# Altium footprint library VESC_DEVICE.PcbLib: 56 footprints (part 2 of 4)
Each footprint in its own frame and in the unit in brackets; x right, y up, seen from the top. Pads: shape width x height; smd on the part's side, far side on the other; paste and mask are expansions set on the pad; w line width, h text height; cw(c..) or ccw(c..) is an arc to the next point about the centre after c.
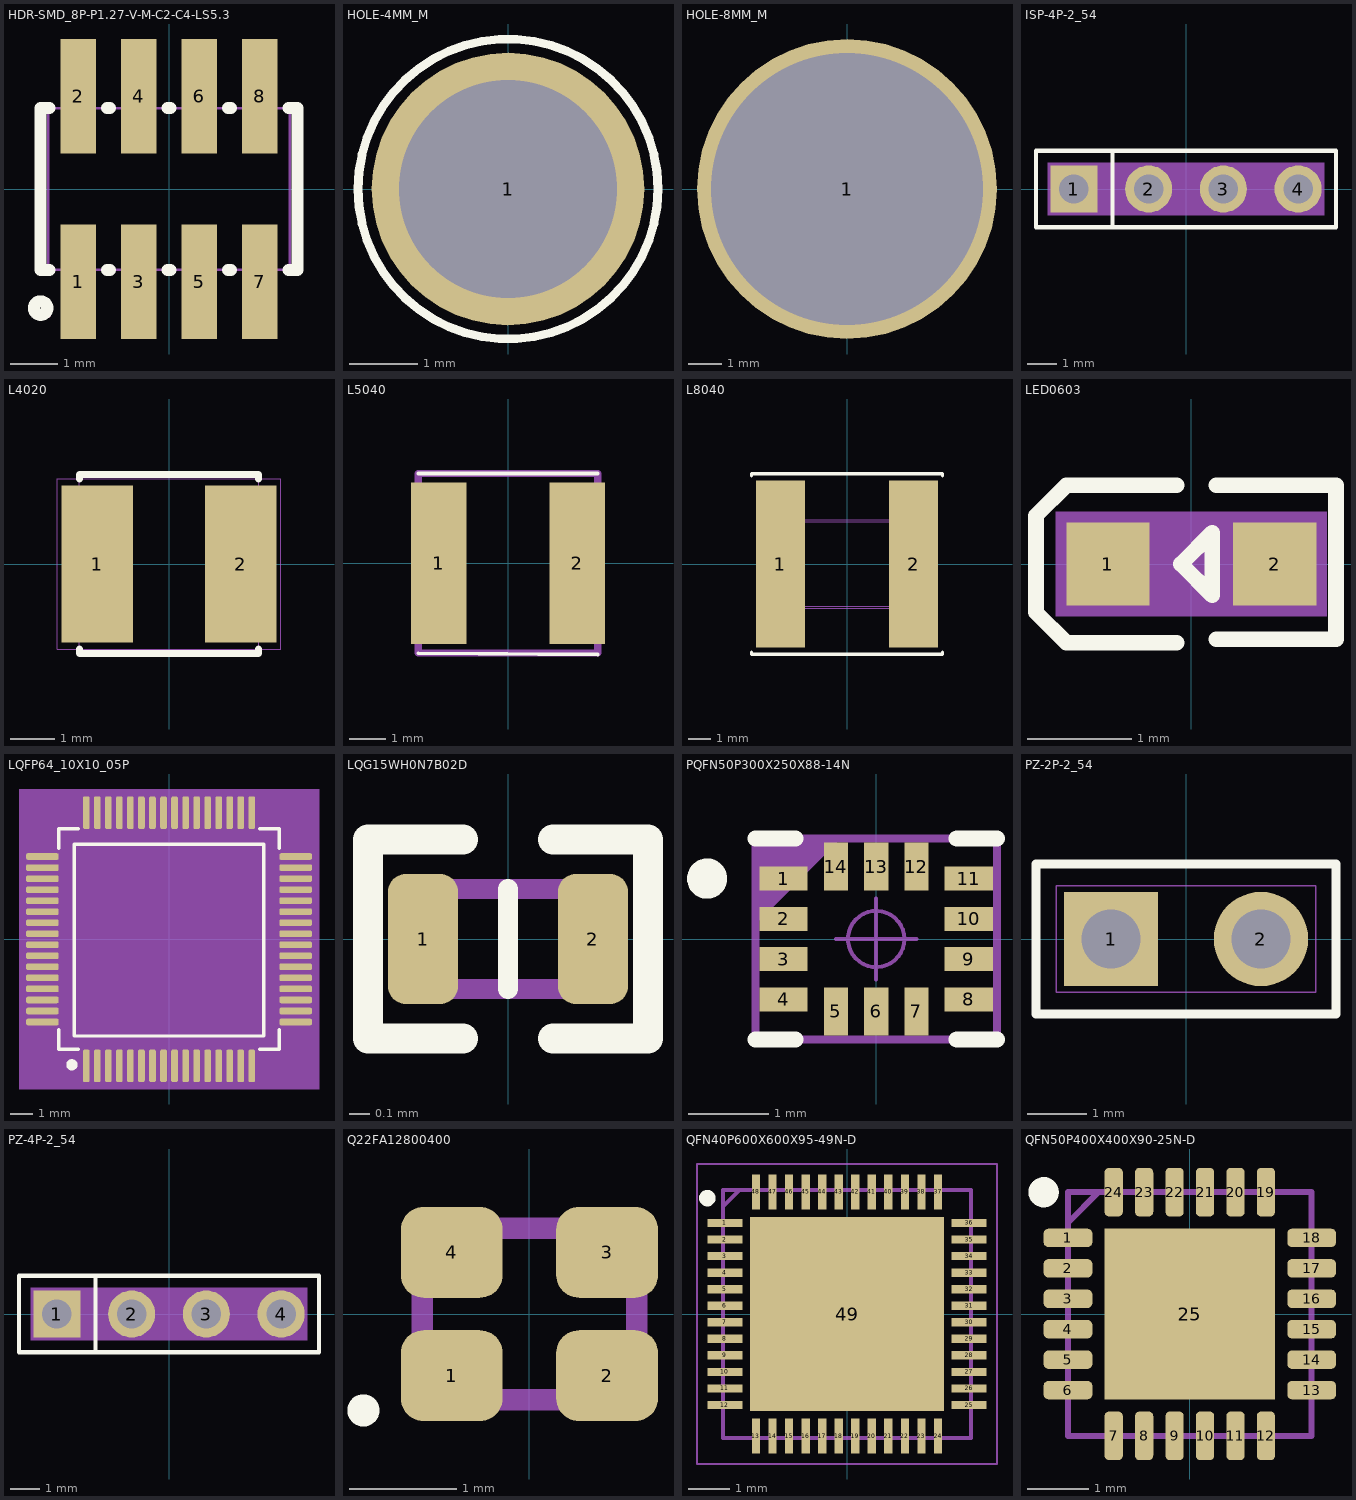
[diagram p1: the footprints below, top view; thin cyan lines are the x and y axes]

## HDR-SMD_8P-P1.27-V-M-C2-C4-LS5.3 [mm]
pads (8):
  rect 0.74x2.4 smd paste+0 mask+0.05: 1(-1.905,-1.95) 2(-1.905,1.95) 3(-0.635,-1.95) 4(-0.635,1.95) 5(0.635,-1.95) 6(0.635,1.95) 7(1.905,-1.95) 8(1.905,1.95)
Top Overlay:
  circle w0.254: c-2.695,-2.5 r0.141
  lines w0.254: -2.506,-1.7 -2.695,-1.7 -2.695,1.7 -2.506,1.7 ; -1.304,-1.7 -1.236,-1.7 ; -1.304,1.7 -1.236,1.7 ; -0.034,-1.7 0.034,-1.7 ; -0.034,1.7 0.034,1.7 ; 1.236,-1.7 1.304,-1.7 ; 1.236,1.7 1.304,1.7 ; 2.506,-1.7 2.695,-1.7 2.695,1.7 2.506,1.7
Mechanical 15:
  region: 1.705,2.65 2.105,2.65 2.105,1.15 1.705,1.15
  region: 1.705,-1.15 2.105,-1.15 2.105,-2.65 1.705,-2.65
  region: 0.435,2.65 0.835,2.65 0.835,1.15 0.435,1.15
  region: 0.435,-1.15 0.835,-1.15 0.835,-2.65 0.435,-2.65
  region: -0.835,2.65 -0.435,2.65 -0.435,1.15 -0.835,1.15
  region: -0.835,-1.15 -0.435,-1.15 -0.435,-2.65 -0.835,-2.65
  region: -2.105,2.65 -1.705,2.65 -1.705,1.15 -2.105,1.15
  region: -2.105,-1.15 -1.705,-1.15 -1.705,-2.65 -2.105,-2.65
  region: -2.48,-2.65 -2.481,-2.626 -2.516,-2.591 -2.565,-2.591 -2.599,-2.626 -2.6,-2.65 -2.599,-2.675 -2.564,-2.709 -2.515,-2.709 -2.481,-2.674 -2.48,-2.65
  lines w0.051: -2.54,-1.7 2.54,-1.7 2.54,1.7 -2.54,1.7 -2.54,-1.7
3D body "iWih-H1.step": height 4.5, standoff 0, extent -2.74,-2.4 2.74,2.4

## HOLE-4MM_M [mm]
pads (1):
  round 4 hole 3.2: 1(0,0)
Top Overlay:
  circle w0.127: c0,0 r2.2
Top Solder:
  circle w0.305: c0.01,-0.002 r1.645
Bottom Solder:
  circle w0.305: c-0.003,-0.001 r1.645

## HOLE-8MM_M [mm]
pads (1):
  round 9 / inner round 4 / far side round 9 hole 8.15: 1(0,0)
Top Solder:
  circle w0.305: c0.01,-0.002 r1.645
Bottom Solder:
  circle w0.305: c-0.003,-0.001 r1.645

## ISP-4P-2_54 [mm] "ISP-4P-2_54"
pads (4):
  rect 1.6x1.6 hole 1: 1(-3.81,0)
  round 1.6 hole 1: 2(-1.27,0) 3(1.27,0) 4(3.81,0)
Top Overlay:
  lines w0.15: -2.5,-1.3 -2.5,1.3 ; -5.1,-1.3 -5.1,1.3 5.1,1.3 5.1,-1.3 -5.1,-1.3
Top 3D Body:
  region: -4.7,-0.9 4.7,-0.9 4.7,0.9 -4.7,0.9
Mechanical 9:
  text "4" at 4.508,-0.4 h0.64
  text "2" at -0.492,-0.3 h0.64
  text "3" at 1.908,-0.4 h0.64
  text "1" at -3.092,-0.3 h0.64
Top Assembly:
  lines w0.025: -5.08,-1.27 -5.08,1.27 5.08,1.27 5.08,-1.27 -5.08,-1.27
3D body "dNjH-H1.step": height 8.54, standoff -3, extent -5.08,-1.33 5.09,1.33

## L4020 [mil] "L4020"
pads (2):
  rect 63x137.8 smd: 1(-63,0) 2(63,0)
Top Overlay:
  lines w5.9: -78.7,-74.8 -78.7,-78.7 78.7,-78.7 78.7,-74.8 ; -78.7,74.8 -78.7,78.7 78.7,78.7 78.7,74.8
Top 3D Body:
  lines w1: -98.4,-74.8 -98.4,74.8 98.4,74.8 98.4,-74.8 -98.4,-74.8
Mechanical 9:
  text "1" at -79.1,-11.8 h25
  text "2" at 50.9,-11.8 h25
Top Assembly:
  lines w1: -78.7,-78.7 78.7,-78.7 78.7,78.7 -78.7,78.7 -78.7,-78.7
3D body "IND-SMD_L4.0-W4.0_LQH44PN2R2MP0L.step": height 73.23, standoff 0, extent -79.13,-78.74 79.13,78.74

## L5040 [mm]
pads (2):
  rect 1.55x4.5 smd: 1(-1.925,0) 2(1.925,0)
Top Overlay:
  lines w0.1: -2.5,-2.5 2.5,-2.54 ; -2.5,2.5 2.5,2.5
Mechanical 13:
  lines w0.2: -2.5,-2.5 -2.5,2.5 2.5,2.5 2.5,-2.5 -2.5,-2.5
3D body "74404054221.stp": height 4.01, standoff 0.01, extent -2.5,-2.52 2.5,2.48

## L8040 [mm] "L8040"
pads (2):
  rect 2.2x7.5 smd: 1(-3,0) 2(3,0)
Top Overlay:
  lines w0.15: -4.299,-3.96 -4.299,-4.059 4.299,-4.059 4.299,-3.96 ; -4.299,3.96 -4.299,4.059 4.299,4.059 4.299,3.96
Top 3D Body:
  lines w0.025: -2.499,-1.9 2.499,-1.9 2.499,1.9 -2.499,1.9 -2.499,-1.9
Mechanical 9:
  text "2" at 1.293,-0.3 h0.64
  text "1" at -2.009,-0.3 h0.64
Top Assembly:
  lines w0.025: -1.999,-1.999 -1.999,1.999 1.999,1.999 1.999,-1.999 -1.999,-1.999
3D body "IND-SMD_L4.0-W4.0_LQH44PN2R2MP0L.step": height 1.86, standoff 0, extent -2.01,-2 2.01,2

## LED0603 [mil] "LED0603"
pads (2):
  rect 31.5x31.5 smd: 1(-31.5,0) 2(31.5,0)
Top Overlay:
  lines w5.9: -5.5,-29.8 -47.2,-29.8 -58.7,-18.3 -58.7,18.3 -47.2,29.8 -5.5,29.8 ; 9.4,-28.5 54.7,-28.5 54.7,29.8 9.4,29.8 ; -3.9,0 7.9,-11.8 7.9,11.8 -3.9,0
Top 3D Body:
  region: -51.2,-19.7 51.2,-19.7 51.2,19.7 -51.2,19.7
Mechanical 9:
  text "2" at 39.4,8.2 h25
  text "1" at -23.6,8.2 h25
Top Assembly:
  lines w1: -31.5,-15.7 -31.5,15.7 31.5,15.7 31.5,-15.7 -31.5,-15.7

## LQFP64_10X10_05P [mm] "LQFP64_10X10_05P"
pads (64):
  rrect50% 0.3x1.475 smd: 1(-3.749,-5.751) 2(-3.249,-5.751) 3(-2.749,-5.751) 4(-2.249,-5.751) 5(-1.749,-5.751) 6(-1.249,-5.751) 7(-0.749,-5.751) 8(-0.249,-5.751) 9(0.251,-5.751) 10(0.751,-5.751) 11(1.251,-5.751) 12(1.751,-5.751) 13(2.251,-5.751) 14(2.751,-5.751) 15(3.251,-5.751) 16(3.751,-5.751) 33(3.751,5.725) 34(3.251,5.725) 35(2.751,5.725) 36(2.251,5.725) 37(1.751,5.725) 38(1.251,5.725) 39(0.751,5.725) 40(0.251,5.725) 41(-0.249,5.725) 42(-0.749,5.725) 43(-1.249,5.725) 44(-1.749,5.725) 45(-2.249,5.725) 46(-2.749,5.725) 47(-3.249,5.725) 48(-3.749,5.725)
  rrect50% 1.475x0.3 smd: 17(5.739,-3.763) 18(5.739,-3.263) 19(5.739,-2.763) 20(5.739,-2.263) 21(5.739,-1.763) 22(5.739,-1.263) 23(5.739,-0.763) 24(5.739,-0.263) 25(5.739,0.237) 26(5.739,0.737) 27(5.739,1.237) 28(5.739,1.737) 29(5.739,2.237) 30(5.739,2.737) 31(5.739,3.237) 32(5.739,3.737) 49(-5.737,3.737) 50(-5.737,3.237) 51(-5.737,2.737) 52(-5.737,2.237) 53(-5.737,1.737) 54(-5.737,1.237) 55(-5.737,0.737) 56(-5.737,0.237) 57(-5.737,-0.263) 58(-5.737,-0.763) 59(-5.737,-1.263) 60(-5.737,-1.763) 61(-5.737,-2.263) 62(-5.737,-2.763) 63(-5.737,-3.263) 64(-5.737,-3.763)
Top Overlay:
  circle w0.254: c-4.404,-5.703 r0.127
  lines w0.15: -5.001,-4.1 -5.001,-5.001 -4.1,-5.001 ; -5.001,4.1 -5.001,5.001 -4.1,5.001 ; 4.1,-5.001 5.001,-5.001 5.001,-4.1 ; 4.1,5.001 5.001,5.001 5.001,4.1 ; -4.3,-4.399 4.3,-4.399 4.3,4.3 -4.3,4.3 -4.3,-4.399
Top 3D Body:
  region: -6.8,-6.8 6.8,-6.8 6.8,6.8 -6.8,6.8
Mechanical 9:
  text "55" at -5.751,0.241 h0.64
  text "57" at -5.751,-0.757 h0.64
  text "56" at -5.751,-0.259 h0.64
  text "2" at -3.251,-6.005 h0.64
  text "28" at 5.751,1.242 h0.64
  text "33" at 3.749,5.243 h0.64
  text "53" at -5.751,1.242 h0.64
  text "54" at -5.751,0.742 h0.64
  text "40" at 0.249,5.243 h0.64
  text "50" at -5.751,2.743 h0.64
  text "51" at -5.751,2.243 h0.64
  text "59" at -5.751,-1.758 h0.64
  text "38" at 1.25,5.243 h0.64
  text "7" at -0.749,-6.005 h0.64
  text "16" at 3.749,-6.259 h0.64
  text "32" at 5.751,3.241 h0.64
  text "19" at 5.751,-3.259 h0.64
  text "64" at -5.751,-4.257 h0.64
  text "1" at -3.749,-6.005 h0.64
  text "13" at 2.25,-6.259 h0.64
  text "48" at -3.749,5.243 h0.64
  text "14" at 2.751,-6.259 h0.64
  text "23" at 5.751,-1.257 h0.64
  text "29" at 5.751,1.742 h0.64
  text "6" at -1.25,-6.005 h0.64
  text "58" at -5.751,-1.257 h0.64
  text "20" at 5.751,-2.758 h0.64
  text "30" at 5.751,2.243 h0.64
  text "17" at 5.751,-4.257 h0.64
  text "42" at -0.749,5.243 h0.64
  text "24" at 5.751,-0.757 h0.64
  text "52" at -5.751,1.742 h0.64
  text "21" at 5.751,-2.258 h0.64
  text "37" at 1.75,5.243 h0.64
  text "34" at 3.251,5.243 h0.64
  text "27" at 5.751,0.742 h0.64
  text "10" at 0.749,-6.259 h0.64
  text "43" at -1.25,5.243 h0.64
  text "61" at -5.751,-2.758 h0.64
  text "25" at 5.751,-0.259 h0.64
  text "44" at -1.75,5.243 h0.64
  text "46" at -2.751,5.243 h0.64
  text "45" at -2.25,5.243 h0.64
  text "31" at 5.751,2.743 h0.64
  text "41" at -0.249,5.243 h0.64
  text "47" at -3.251,5.243 h0.64
  text "9" at 0.249,-6.005 h0.64
  text "11" at 1.25,-6.259 h0.64
  text "26" at 5.751,0.241 h0.64
  text "35" at 2.751,5.243 h0.64
  text "39" at 0.749,5.243 h0.64
  text "62" at -5.751,-3.259 h0.64
  text "15" at 3.251,-6.259 h0.64
  text "5" at -1.75,-6.005 h0.64
  text "8" at -0.249,-6.005 h0.64
  text "22" at 5.751,-1.758 h0.64
  text "60" at -5.751,-2.258 h0.64
  text "63" at -5.751,-3.759 h0.64
  text "18" at 5.751,-3.759 h0.64
  text "12" at 1.75,-6.259 h0.64
  text "36" at 2.25,5.243 h0.64
  text "49" at -5.751,3.241 h0.64
  text "4" at -2.25,-6.005 h0.64
  text "3" at -2.751,-6.005 h0.64
Top Assembly:
  dashed: -4.4,-5.332 -4.541,-5.36 -4.661,-5.439 -4.74,-5.559 -4.768,-5.7 -4.74,-5.841 -4.714,-5.881 -4.661,-5.961 -4.541,-6.04 -4.4,-6.068 -4.259,-6.04 -4.139,-5.961 -4.086,-5.881 -4.06,-5.841 -4.032,-5.7 -4.06,-5.559 -4.139,-5.439 -4.259,-5.36
  lines w0.025: -5.001,-5.001 5.001,-5.001 5.001,5.001 -5.001,5.001 -5.001,-5.001
3D body "STM32F405RGT6.stp": height 1.31, standoff -0.12, extent -5.969,-6 6.031,6

## LQG15WH0N7B02D [mm]
pads (2):
  rrect50% 0.35x0.65 smd: 1(-0.425,0) 2(0.425,0)
Top Overlay:
  lines w0.1: 0,-0.25 0,0.25
  lines w0.15: -0.226,-0.498 -0.7,-0.498 -0.7,0.498 -0.226,0.498 ; 0.226,-0.498 0.7,-0.498 0.7,0.498 0.226,0.498
Mechanical 13:
  lines w0.1: -0.5,-0.25 -0.5,0.25 0.5,0.25 0.5,-0.25 -0.5,-0.25
3D body "LQG15HS4N7C02D.stp": height 0.55, standoff 0, extent -0.5,-0.25 0.5,0.25

## PQFN50P300X250X88-14N [mm]
pads (14):
  rect 0.6x0.3 smd: 1(-1.15,0.75) 2(-1.15,0.25) 3(-1.15,-0.25) 4(-1.15,-0.75) 8(1.15,-0.75) 9(1.15,-0.25) 10(1.15,0.25) 11(1.15,0.75)
  rect 0.3x0.6 smd: 5(-0.5,-0.9) 6(0,-0.9) 7(0.5,-0.9) 12(0.5,0.9) 13(0,0.9) 14(-0.5,0.9)
Top Overlay:
  circle w0.25: c-2.1,0.75 r0.125
  lines w0.2: -1.5,-1.25 -1,-1.25 ; -1.5,1.25 -1,1.25 ; 1,-1.25 1.5,-1.25 ; 1,1.25 1.5,1.25
Mechanical 13:
  lines w0.1: -1.5,0.25 -0.5,1.25 ; -1.5,0.35 -0.6,1.25 ; -1.5,0.45 -0.7,1.25 ; -1.5,0.55 -0.8,1.25 ; -1.5,0.65 -0.9,1.25 ; -1.5,0.75 -1,1.25 ; -1.5,0.85 -1.1,1.25 ; -1.5,0.95 -1.2,1.25 ; -1.5,1.05 -1.3,1.25 ; -1.5,1.15 -1.4,1.25 ; -1.5,-1.25 1.5,-1.25 1.5,1.25 -1.5,1.25 -1.5,-1.25
Mechanical 15:
  circle w0.05: c0,0 r0.35
  lines w0.001: -1.5,-1.25 1.5,-1.25 1.5,1.25 -1.5,1.25 -1.5,-1.25
  lines w0.05: -0.5,0 0.5,0 ; 0,-0.5 0,0.5
3D body "BMI160.stp": height 1, standoff 0, extent -1.5,-1.25 1.5,1.25

## PZ-2P-2_54 [mm] "PZ-2P-2_54"
pads (2):
  rect 1.6x1.6 hole 1: 1(-1.27,0)
  round 1.6 hole 1: 2(1.27,0)
Top Overlay:
  lines w0.152: -2.54,-1.27 -2.54,1.27 2.54,1.27 2.54,-1.27 -2.54,-1.27
Top 3D Body:
  lines w0.025: -2.2,-0.9 2.2,-0.9 2.2,0.9 -2.2,0.9 -2.2,-0.9
Mechanical 9:
  text "1" at -1.06,-0.808 h0.64
  text "2" at 1.54,-0.808 h0.64
Top Assembly:
  lines w0.01: -2.54,-1.27 -2.54,1.27 2.54,1.27 2.54,-1.27 -2.54,-1.27

## PZ-4P-2_54 [mm] "PZ-4P-2_54"
pads (4):
  rect 1.6x1.6 hole 1: 1(-3.81,0)
  round 1.6 hole 1: 2(-1.27,0) 3(1.27,0) 4(3.81,0)
Top Overlay:
  lines w0.15: -2.5,-1.3 -2.5,1.3 ; -5.1,-1.3 5.1,-1.3 5.1,1.3 -5.1,1.3 -5.1,-1.3
Top 3D Body:
  region: -4.7,-0.9 -4.7,0.9 4.7,0.9 4.7,-0.9
Mechanical 9:
  text "4" at 4,0.108 h0.64
  text "2" at -1,0.208 h0.64
  text "3" at 1.4,0.108 h0.64
  text "1" at -3.6,0.208 h0.64
Top Assembly:
  lines w0.025: -5.08,-1.27 5.08,-1.27 5.08,1.27 -5.08,1.27 -5.08,-1.27
3D body "dNjH-H1.step": height 8.54, standoff -3, extent -5.08,-1.33 5.09,1.33

## Q22FA12800400 [mm]
pads (4):
  rrect50% 0.95x0.85 smd: 1(-0.725,-0.575) 2(0.725,-0.575) 3(0.725,0.575) 4(-0.725,0.575)
Top Overlay:
  lines w0.2: -1.6,-0.9 ccw(c-1.55,-0.9) -1.5,-0.9 ; -1.6,-0.9 cw(c-1.55,-0.9) -1.5,-0.9 ; -1.6,-0.9 ccw(c-1.55,-0.9) -1.5,-0.9
Mechanical 13:
  lines w0.2: -1,-0.8 -1,0.8 1,0.8 1,-0.8 -1,-0.8
3D body "Q22FA12800400.stp": height 0.6, standoff 0, extent -1.115,-0.915 1.115,0.915

## QFN40P600X600X95-49N-D [mm]
pads (49):
  rect 0.85x0.2 smd: 1(-2.95,2.2) 2(-2.95,1.8) 3(-2.95,1.4) 4(-2.95,1) 5(-2.95,0.6) 6(-2.95,0.2) 7(-2.95,-0.2) 8(-2.95,-0.6) 9(-2.95,-1) 10(-2.95,-1.4) 11(-2.95,-1.8) 12(-2.95,-2.2) 25(2.95,-2.2) 26(2.95,-1.8) 27(2.95,-1.4) 28(2.95,-1) 29(2.95,-0.6) 30(2.95,-0.2) 31(2.95,0.2) 32(2.95,0.6) 33(2.95,1) 34(2.95,1.4) 35(2.95,1.8) 36(2.95,2.2)
  rect 0.2x0.85 smd: 13(-2.2,-2.95) 14(-1.8,-2.95) 15(-1.4,-2.95) 16(-1,-2.95) 17(-0.6,-2.95) 18(-0.2,-2.95) 19(0.2,-2.95) 20(0.6,-2.95) 21(1,-2.95) 22(1.4,-2.95) 23(1.8,-2.95) 24(2.2,-2.95) 37(2.2,2.95) 38(1.8,2.95) 39(1.4,2.95) 40(1,2.95) 41(0.6,2.95) 42(0.2,2.95) 43(-0.2,2.95) 44(-0.6,2.95) 45(-1,2.95) 46(-1.4,2.95) 47(-1.8,2.95) 48(-2.2,2.95)
  rect 4.7x4.7 smd: 49(0,0)
Top Overlay:
  circle w0.2: c-3.375,2.8 r0.1
Mechanical 13:
  lines w0.1: -3,2.6 -2.6,3 ; -3,-3 3,-3 3,3 -3,3 -3,-3
Mechanical 15:
  lines w0.05: -3.625,-3.625 3.625,-3.625 3.625,3.625 -3.625,3.625 -3.625,-3.625
3D body "nRF51822-QFAA-R.stp": height 0.95, standoff 0, extent -3.05,-3.05 3.05,3.05

## QFN50P400X400X90-25N-D [mm]
pads (25):
  rrect50% 0.8x0.3 smd: 1(-2,1.25) 2(-2,0.75) 3(-2,0.25) 4(-2,-0.25) 5(-2,-0.75) 6(-2,-1.25) 13(2,-1.25) 14(2,-0.75) 15(2,-0.25) 16(2,0.25) 17(2,0.75) 18(2,1.25)
  rrect50% 0.3x0.8 smd: 7(-1.25,-2) 8(-0.75,-2) 9(-0.25,-2) 10(0.25,-2) 11(0.75,-2) 12(1.25,-2) 19(1.25,2) 20(0.75,2) 21(0.25,2) 22(-0.25,2) 23(-0.75,2) 24(-1.25,2)
  rect 2.8x2.8 smd: 25(0,0)
Top Overlay:
  circle w0.25: c-2.4,2 r0.125
Mechanical 14:
  lines w0.1: -2,1.5 -1.5,2 ; -2,-2 -2,2 2,2 2,-2 -2,-2
3D body "FD6288Q.stp": height 0.9, standoff 0, extent -2.05,-2.05 2.05,2.05